# Altium schematic symbol library 74AC11257.SchLib: 1 symbol
Pins are listed as number, name and electrical type; pins without a type are passive.

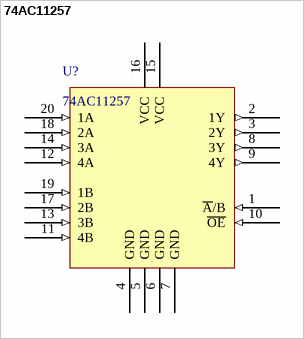
[diagram p0: symbol 74AC11257]

## 74AC11257
designator U?
pins: 1 ~{A}/B (in), 2 1Y (out), 3 2Y (out), 4 GND (power), 5 GND (power), 6 GND (power), 7 GND (power), 8 3Y (out), 9 4Y (out), 10 ~{OE} (in), 11 4B (in), 12 4A (in), 13 3B (in), 14 3A (in), 15 VCC (power), 16 VCC (power), 17 2B (in), 18 2A (in), 19 1B (in), 20 1A (in)